# EAGLE library part TPS54325PWP (library circuit_tree)
IC
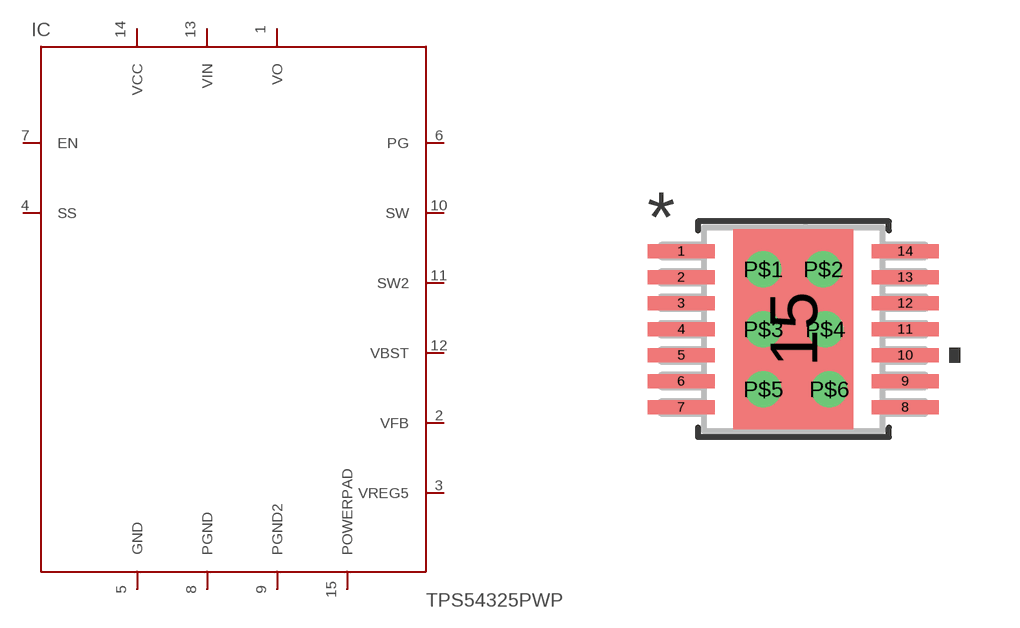
[diagram p11: symbol with the pads of HTSSOP14; footprint HTSSOP14]

Designator prefix IC

## TPS54325PWP  [HTSSOP14]
1  VO  pas
2  VFB  pas
3  VREG5  pas
4  SS  pas
5  GND  pas
6  PG  pas
7  EN  pas
8  PGND  pas
9  PGND2  pas
10  SW  pas
11  SW2  pas
12  VBST  pas
13  VIN  pas
14  VCC  pas
15  POWERPAD  pas

## Footprint HTSSOP14 (pad centres in mm)
smd 1.676 x 0.356: 1 -2.8,1.95; 2 -2.8,1.3; 3 -2.8,0.65; 4 -2.8,0; 5 -2.8,-0.65; 6 -2.8,-1.3; 7 -2.8,-1.95; 8 2.8,-1.95; 9 2.8,-1.3; 10 2.8,-0.65; 11 2.8,0; 12 2.8,0.65; 13 2.8,1.3; 14 2.8,1.95
smd 3 x 5: 15 0,0
drill 0.4 pad 0.45: P$1 -0.75,1.5; P$2 0.75,1.5; P$3 -0.75,0; P$4 0.8,0; P$5 -0.75,-1.5; P$6 0.9,-1.5